# EAGLE library part STM32F7*NIH6 (library mchair)
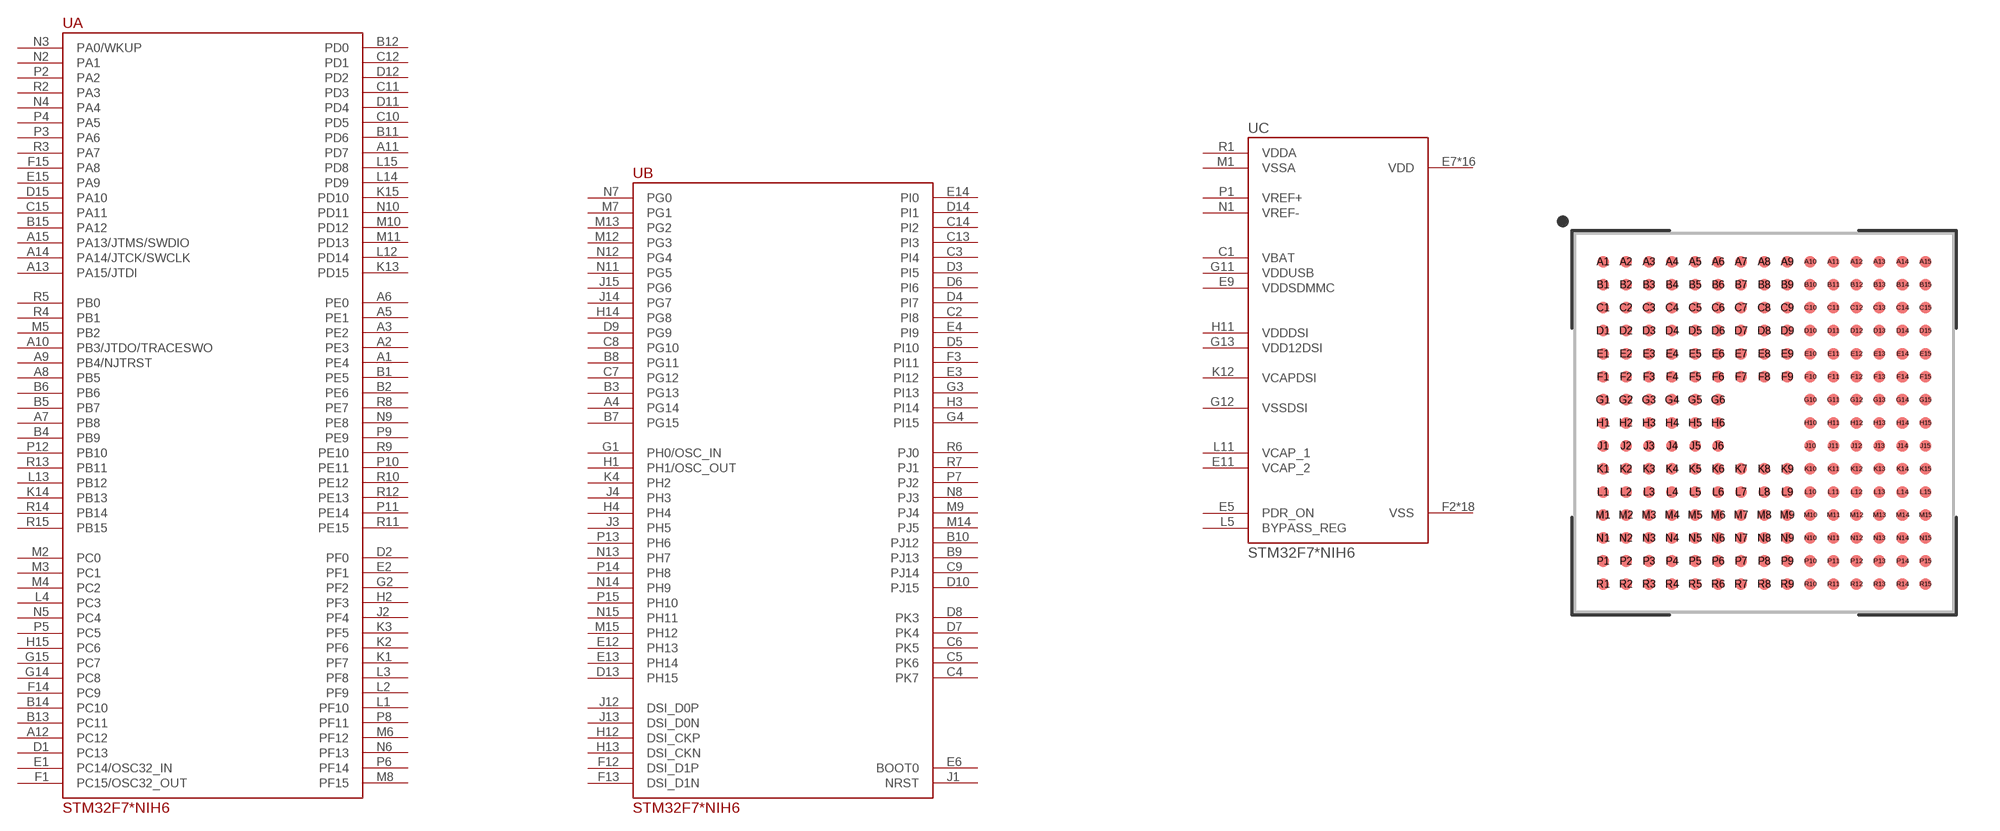
[diagram p3: symbol with the pads of TFBGA216; footprint TFBGA216]

Designator prefix U; gates A=STM32F7*NIH_1 B=STM32F7*NIH_2 C=STM32F7*NIH_3

## STM32F769NIH6  [TFBGA216]
A1  A:PE4
A2  A:PE3
A3  A:PE2
A4  B:PG14
A5  A:PE1
A6  A:PE0
A7  A:PB8
A8  A:PB5
A9  A:PB4/NJTRST
A10  A:PB3/JTDO/TRACESWO
A11  A:PD7
A12  A:PC12
A13  A:PA15/JTDI
A14  A:PA14/JTCK/SWCLK
A15  A:PA13/JTMS/SWDIO
B1  A:PE5
B2  A:PE6
B3  B:PG13
B4  A:PB9
B5  A:PB7
B6  A:PB6
B7  B:PG15
B8  B:PG11
B9  B:PJ13
B10  B:PJ12
B11  A:PD6
B12  A:PD0
B13  A:PC11
B14  A:PC10
B15  A:PA12
C1  C:VBAT
C2  B:PI8
C3  B:PI4
C4  B:PK7
C5  B:PK6
C6  B:PK5
C7  B:PG12
C8  B:PG10
C9  B:PJ14
C10  A:PD5
C11  A:PD3
C12  A:PD1
C13  B:PI3
C14  B:PI2
C15  A:PA11
D1  A:PC13
D2  A:PF0
D3  B:PI5
D4  B:PI7
D5  B:PI10
D6  B:PI6
D7  B:PK4
D8  B:PK3
D9  B:PG9
D10  B:PJ15
D11  A:PD4
D12  A:PD2
D13  B:PH15
D14  B:PI1
D15  A:PA10
E1  A:PC14/OSC32_IN
E2  A:PF1
E3  B:PI12
E4  B:PI9
E5  C:PDR_ON
E6  B:BOOT0
E7  C:VDD
E8  C:VDD
E9  C:VDDSDMMC
E10  C:VDD
E11  C:VCAP_2
E12  B:PH13
E13  B:PH14
E14  B:PI0
E15  A:PA9
F1  A:PC15/OSC32_OUT
F2  C:VSS
F3  B:PI11
F4  C:VDD
F5  C:VDD
F6  C:VSS
F7  C:VSS
F8  C:VSS
F9  C:VSS
F10  C:VSS
F11  C:VDD
F12  B:DSI_D1P
F13  B:DSI_D1N
F14  A:PC9
F15  A:PA8
G1  B:PH0/OSC_IN
G2  A:PF2
G3  B:PI13
G4  B:PI15
G5  C:VDD
G6  C:VSS
G10  C:VSS
G11  C:VDDUSB
G12  C:VSSDSI
G13  C:VDD12DSI
G14  A:PC8
G15  A:PC7
H1  B:PH1/OSC_OUT
H2  A:PF3
H3  B:PI14
H4  B:PH4
H5  C:VDD
H6  C:VSS
H10  C:VSS
H11  C:VDDDSI
H12  B:DSI_CKP
H13  B:DSI_CKN
H14  B:PG8
H15  A:PC6
J1  B:NRST
J2  A:PF4
J3  B:PH5
J4  B:PH3
J5  C:VDD
J6  C:VSS
J10  C:VSS
J11  C:VDD
J12  B:DSI_D0P
J13  B:DSI_D0N
J14  B:PG7
J15  B:PG6
K1  A:PF7
K2  A:PF6
K3  A:PF5
K4  B:PH2
K5  C:VDD
K6  C:VSS
K7  C:VSS
K8  C:VSS
K9  C:VSS
K10  C:VSS
K11  C:VDD
K12  C:VCAPDSI
K13  A:PD15
K14  A:PB13
K15  A:PD10
L1  A:PF10
L2  A:PF9
L3  A:PF8
L4  A:PC3
L5  C:BYPASS_REG
L6  C:VSS
L7  C:VDD
L8  C:VDD
L9  C:VDD
L10  C:VDD
L11  C:VCAP_1
L12  A:PD14
L13  A:PB12
L14  A:PD9
L15  A:PD8
M1  C:VSSA
M2  A:PC0
M3  A:PC1
M4  A:PC2
M5  A:PB2
M6  A:PF12
M7  B:PG1
M8  A:PF15
M9  B:PJ4
M10  A:PD12
M11  A:PD13
M12  B:PG3
M13  B:PG2
M14  B:PJ5
M15  B:PH12
N1  C:VREF-
N2  A:PA1
N3  A:PA0/WKUP
N4  A:PA4
N5  A:PC4
N6  A:PF13
N7  B:PG0
N8  B:PJ3
N9  A:PE8
N10  A:PD11
N11  B:PG5
N12  B:PG4
N13  B:PH7
N14  B:PH9
N15  B:PH11
P1  C:VREF+
P2  A:PA2
P3  A:PA6
P4  A:PA5
P5  A:PC5
P6  A:PF14
P7  B:PJ2
P8  A:PF11
P9  A:PE9
P10  A:PE11
P11  A:PE14
P12  A:PB10
P13  B:PH6
P14  B:PH8
P15  B:PH10
R1  C:VDDA
R2  A:PA3
R3  A:PA7
R4  A:PB1
R5  A:PB0
R6  B:PJ0
R7  B:PJ1
R8  A:PE7
R9  A:PE10
R10  A:PE12
R11  A:PE15
R12  A:PE13
R13  A:PB11
R14  A:PB14
R15  A:PB15

## Footprint TFBGA216 (pad centres in mm)
225-BGA, collapsing, 0.8 mm pitch, 13 X 13 X 1.1 mm body 225-pin collapsing BGA package with 0.8 mm col pitch and 0.8 mm row pitch with body size 13 X 13 X 1.1 mm
smd 0.4 x 0.4: A1 -5.6,5.6; A2 -4.8,5.6; A3 -4,5.6; A4 -3.2,5.6; A5 -2.4,5.6; A6 -1.6,5.6; A7 -0.8,5.6; A8 0,5.6; A9 0.8,5.6; A10 1.6,5.6; A11 2.4,5.6; A12 3.2,5.6; A13 4,5.6; A14 4.8,5.6; A15 5.6,5.6; B1 -5.6,4.8; B2 -4.8,4.8; B3 -4,4.8; B4 -3.2,4.8; B5 -2.4,4.8; B6 -1.6,4.8; B7 -0.8,4.8; B8 0,4.8; B9 0.8,4.8; B10 1.6,4.8; B11 2.4,4.8; B12 3.2,4.8; B13 4,4.8; B14 4.8,4.8; B15 5.6,4.8; C1 -5.6,4; C2 -4.8,4; C3 -4,4; C4 -3.2,4; C5 -2.4,4; C6 -1.6,4; C7 -0.8,4; C8 0,4; C9 0.8,4; C10 1.6,4; C11 2.4,4; C12 3.2,4; C13 4,4; C14 4.8,4; C15 5.6,4; D1 -5.6,3.2; D2 -4.8,3.2; D3 -4,3.2; D4 -3.2,3.2; D5 -2.4,3.2; D6 -1.6,3.2; D7 -0.8,3.2; D8 0,3.2; D9 0.8,3.2; D10 1.6,3.2; D11 2.4,3.2; D12 3.2,3.2; D13 4,3.2; D14 4.8,3.2; D15 5.6,3.2; E1 -5.6,2.4; E2 -4.8,2.4; E3 -4,2.4; E4 -3.2,2.4; E5 -2.4,2.4; E6 -1.6,2.4; E7 -0.8,2.4; E8 0,2.4; E9 0.8,2.4; E10 1.6,2.4; E11 2.4,2.4; E12 3.2,2.4; E13 4,2.4; E14 4.8,2.4; E15 5.6,2.4; F1 -5.6,1.6; F2 -4.8,1.6; F3 -4,1.6; F4 -3.2,1.6; F5 -2.4,1.6; F6 -1.6,1.6; F7 -0.8,1.6; F8 0,1.6; F9 0.8,1.6; F10 1.6,1.6; F11 2.4,1.6; F12 3.2,1.6; F13 4,1.6; F14 4.8,1.6; F15 5.6,1.6; G1 -5.6,0.8; G2 -4.8,0.8; G3 -4,0.8; G4 -3.2,0.8; G5 -2.4,0.8; G6 -1.6,0.8; G10 1.6,0.8; G11 2.4,0.8; G12 3.2,0.8; G13 4,0.8; G14 4.8,0.8; G15 5.6,0.8; H1 -5.6,0; H2 -4.8,0; H3 -4,0; H4 -3.2,0; H5 -2.4,0; H6 -1.6,0; H10 1.6,0; H11 2.4,0; H12 3.2,0; H13 4,0; H14 4.8,0; H15 5.6,0; J1 -5.6,-0.8; J2 -4.8,-0.8; J3 -4,-0.8; J4 -3.2,-0.8; J5 -2.4,-0.8; J6 -1.6,-0.8; J10 1.6,-0.8; J11 2.4,-0.8; J12 3.2,-0.8; J13 4,-0.8; J14 4.8,-0.8; J15 5.6,-0.8; K1 -5.6,-1.6; K2 -4.8,-1.6; K3 -4,-1.6; K4 -3.2,-1.6; K5 -2.4,-1.6; K6 -1.6,-1.6; K7 -0.8,-1.6; K8 0,-1.6; K9 0.8,-1.6; K10 1.6,-1.6; K11 2.4,-1.6; K12 3.2,-1.6; K13 4,-1.6; K14 4.8,-1.6; K15 5.6,-1.6; L1 -5.6,-2.4; L2 -4.8,-2.4; L3 -4,-2.4; L4 -3.2,-2.4; L5 -2.4,-2.4; L6 -1.6,-2.4; L7 -0.8,-2.4; L8 0,-2.4; L9 0.8,-2.4; L10 1.6,-2.4; L11 2.4,-2.4; L12 3.2,-2.4; L13 4,-2.4; L14 4.8,-2.4; L15 5.6,-2.4; M1 -5.6,-3.2; M2 -4.8,-3.2; M3 -4,-3.2; M4 -3.2,-3.2; M5 -2.4,-3.2; M6 -1.6,-3.2; M7 -0.8,-3.2; M8 0,-3.2; M9 0.8,-3.2; M10 1.6,-3.2; M11 2.4,-3.2; M12 3.2,-3.2; M13 4,-3.2; M14 4.8,-3.2; M15 5.6,-3.2; N1 -5.6,-4; N2 -4.8,-4; N3 -4,-4; N4 -3.2,-4; N5 -2.4,-4; N6 -1.6,-4; N7 -0.8,-4; N8 0,-4; N9 0.8,-4; N10 1.6,-4; N11 2.4,-4; N12 3.2,-4; N13 4,-4; N14 4.8,-4; N15 5.6,-4; P1 -5.6,-4.8; P2 -4.8,-4.8; P3 -4,-4.8; P4 -3.2,-4.8; P5 -2.4,-4.8; P6 -1.6,-4.8; P7 -0.8,-4.8; P8 0,-4.8; P9 0.8,-4.8; P10 1.6,-4.8; P11 2.4,-4.8; P12 3.2,-4.8; P13 4,-4.8; P14 4.8,-4.8; P15 5.6,-4.8; R1 -5.6,-5.6; R2 -4.8,-5.6; R3 -4,-5.6; R4 -3.2,-5.6; R5 -2.4,-5.6; R6 -1.6,-5.6; R7 -0.8,-5.6; R8 0,-5.6; R9 0.8,-5.6; R10 1.6,-5.6; R11 2.4,-5.6; R12 3.2,-5.6; R13 4,-5.6; R14 4.8,-5.6; R15 5.6,-5.6